# Altium schematic symbol library kmilo17pet-TI_RS232.SchLib: 1272 symbols (part 35 of 37)
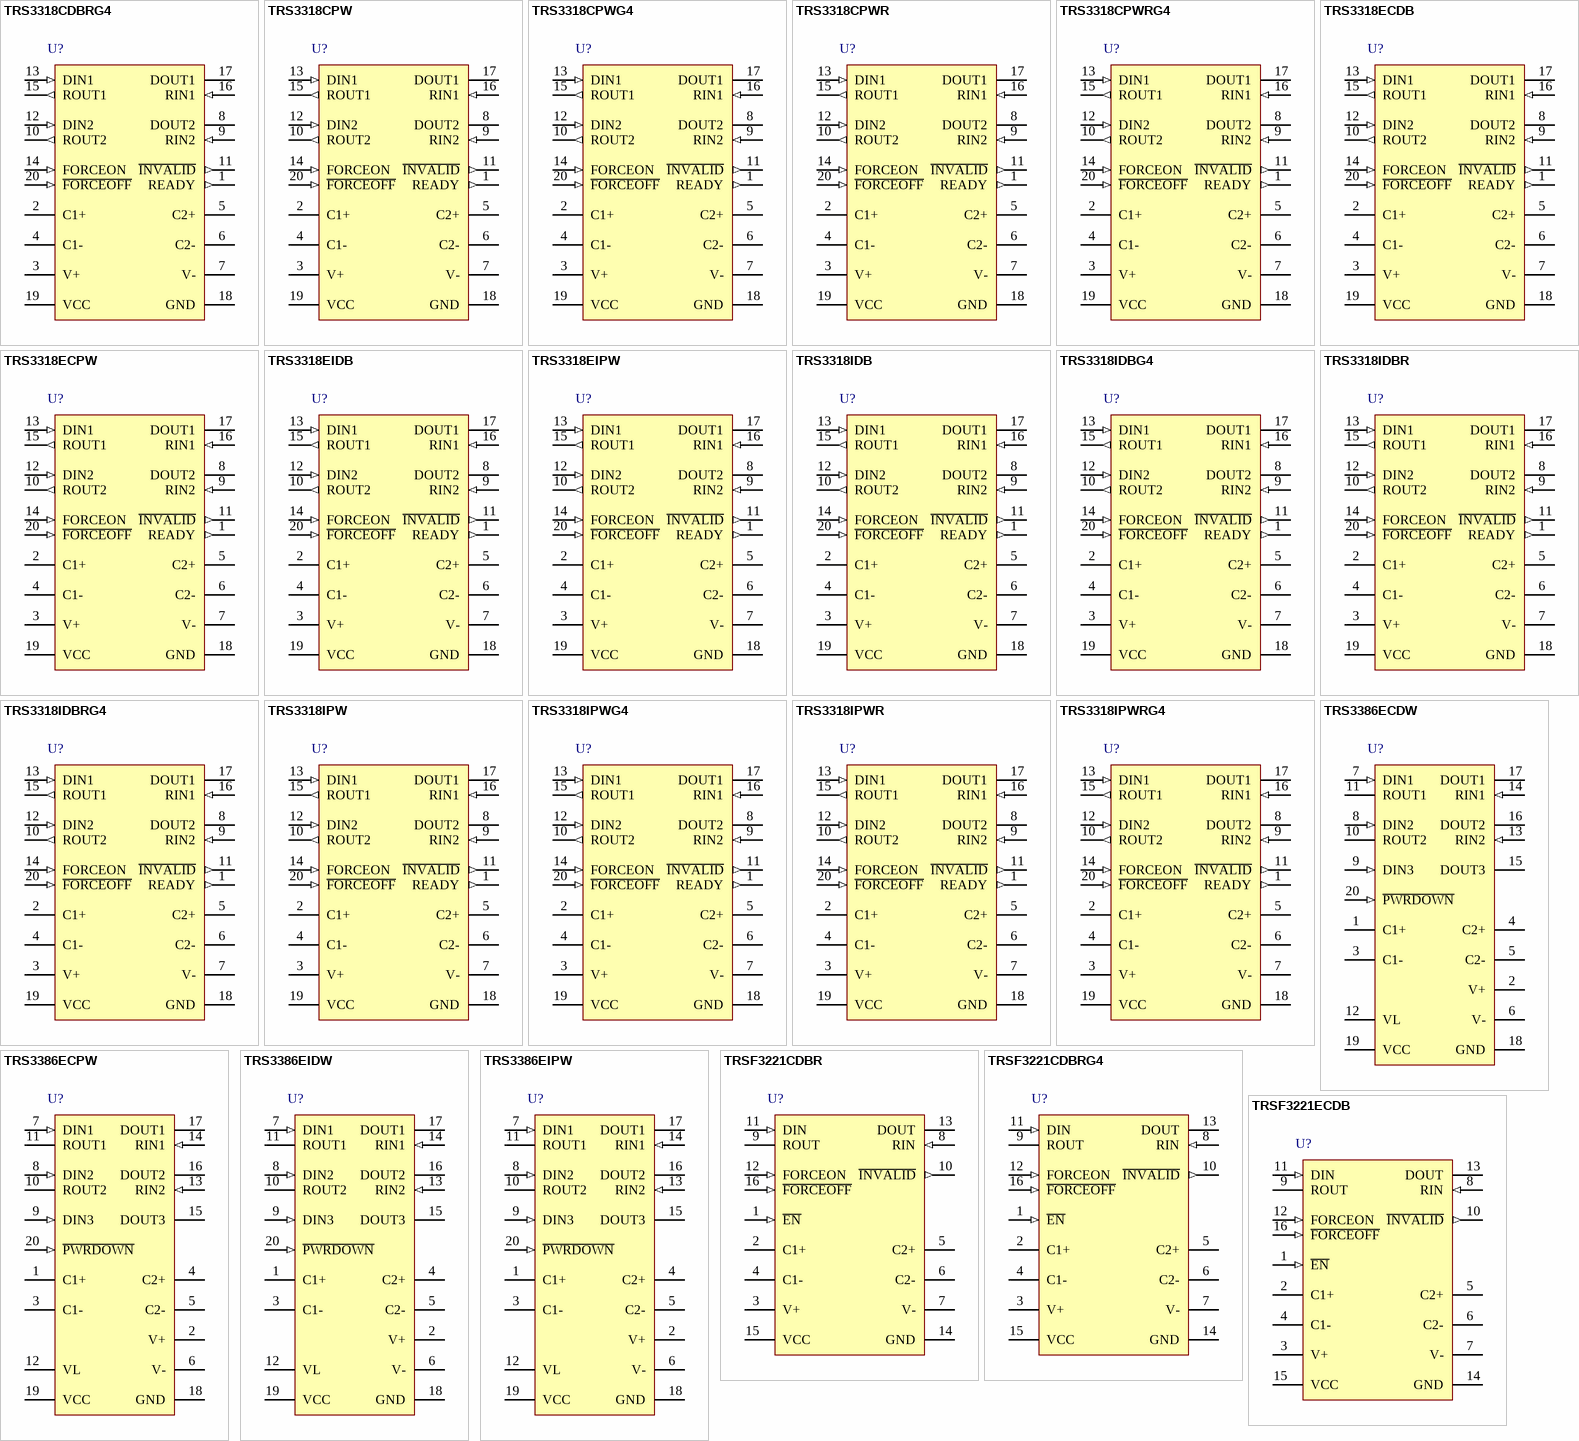
[diagram p88: symbols TRS3318CDBRG4 to TRSF3221ECDB]

## TRS3318CPW
designator U?
2.5-V 460-kbps RS-232 Transceiver with ±15-kV ESD Protection, 0 to 70 degC, 20-Pin TSSOP (PW), Green (RoHS & no Sb/Br); Drivers Per Package: 2; Supply Voltage(s)(V): 2.25 to 3.0; ESD HBM(kV): +/-15; Single Supply: TRUE; DatasheetVersion: SLLS820; PackageVersion: revG, Feb-2011; PackageReference: PW20; PackageDescription: 20-Pin Plastic Thin Small Outline Package 6.5 x 4.4 mm Body ,0.65 mm Pitch; SubFamily: RS-232; Receivers Per Package: 2; ICC(Max)(mA): 2; RS-232: TRUE; ComponentLink1Description: Manufacturer URL; ComponentLink1URL: www.ti.com; ComponentLink2Description: Datasheet; ComponentLink2URL: http://www.ti.com/general/docs/lit/getliterature.tsp?genericPartNumber=TRS3318&fileType=pdf; ComponentLink3Description: Package Specification; ComponentLink3URL: http://www.ti.com/litv/pdf/mpds362
footprint TI-PW20_N (TSOP, 20-Leads, Body 6.5x4.4mm, Pitch 0.65mm, IPC Medium Density)
footprint TI-PW20_L (TSOP, 20-Leads, Body 6.5x4.4mm, Pitch 0.65mm, IPC High Density)
footprint TI-PW20_M (TSOP, 20-Leads, Body 6.5x4.4mm, Pitch 0.65mm, IPC Low Density)
pins: 1 READY (out) "Ready to transmit output, active high. READY is enabled high when V- goes below -3.5 V and the device is ready to transmit.", 2 C1+ "Positive voltage-doubler charge-pump capacitor", 3 V+ (power) "2 x VCC generated by the charge pump", 4 C1- "Negative voltage-doubler charge-pump capacitor", 5 C2+ "Positive inverting charge-pump capacitor", 6 C2- "Negative inverting charge-pump capacitor", 7 V- (power) "-2 x VCC generated by the charge pump", 8 DOUT2 (hiz) "RS-232 driver outputs", 9 RIN2 (in) "RS-232 receiver inputs", 10 ROUT2 (out) "CMOS receiver outputs", 11 ~{INVALID} (out) "Valid signal detector output, active low. A logic high indicates that a valid RS-232 level is present on a receiver input.", 12 DIN2 (in) "CMOS driver inputs", 13 DIN1 (in) "CMOS driver inputs", 14 FORCEON (in) "Force-on input, active high. Drive high to override auto-powerdown, keeping transmitters and receivers on (F\O\R\C\E\O\F\F must be high) (see Function Table)", 15 ROUT1 (out) "CMOS receiver outputs", 16 RIN1 (in) "RS-232 receiver inputs", 17 DOUT1 (hiz) "RS-232 driver outputs", 18 GND (power) "Ground", 19 VCC (power) "2.25-V to 3-V single-supply voltage", 20 ~{FORCEOFF} (in) "Force-off input,active low.Drive low to power down transmitters, receivers, and charge pump. This overrides auto-powerdown and FORCEON (see Function Table)"

## TRS3318CPWG4
designator U?
2.5-V 460-kbps RS-232 Transceiver with ±15-kV ESD Protection, 0 to 70 degC, 20-Pin TSSOP (PW), Green (RoHS & no Sb/Br); Drivers Per Package: 2; Supply Voltage(s)(V): 2.25 to 3.0; ESD HBM(kV): +/-15; Single Supply: TRUE; DatasheetVersion: SLLS820; PackageVersion: revG, Feb-2011; PackageReference: PW20; PackageDescription: 20-Pin Plastic Thin Small Outline Package 6.5 x 4.4 mm Body ,0.65 mm Pitch; SubFamily: RS-232; Receivers Per Package: 2; ICC(Max)(mA): 2; RS-232: TRUE; ComponentLink1Description: Manufacturer URL; ComponentLink1URL: www.ti.com; ComponentLink2Description: Datasheet; ComponentLink2URL: http://www.ti.com/general/docs/lit/getliterature.tsp?genericPartNumber=TRS3318&fileType=pdf; ComponentLink3Description: Package Specification; ComponentLink3URL: http://www.ti.com/litv/pdf/mpds362
footprint TI-PW20_N (TSOP, 20-Leads, Body 6.5x4.4mm, Pitch 0.65mm, IPC Medium Density)
footprint TI-PW20_L (TSOP, 20-Leads, Body 6.5x4.4mm, Pitch 0.65mm, IPC High Density)
footprint TI-PW20_M (TSOP, 20-Leads, Body 6.5x4.4mm, Pitch 0.65mm, IPC Low Density)
pins: 1 READY (out) "Ready to transmit output, active high. READY is enabled high when V- goes below -3.5 V and the device is ready to transmit.", 2 C1+ "Positive voltage-doubler charge-pump capacitor", 3 V+ (power) "2 x VCC generated by the charge pump", 4 C1- "Negative voltage-doubler charge-pump capacitor", 5 C2+ "Positive inverting charge-pump capacitor", 6 C2- "Negative inverting charge-pump capacitor", 7 V- (power) "-2 x VCC generated by the charge pump", 8 DOUT2 (hiz) "RS-232 driver outputs", 9 RIN2 (in) "RS-232 receiver inputs", 10 ROUT2 (out) "CMOS receiver outputs", 11 ~{INVALID} (out) "Valid signal detector output, active low. A logic high indicates that a valid RS-232 level is present on a receiver input.", 12 DIN2 (in) "CMOS driver inputs", 13 DIN1 (in) "CMOS driver inputs", 14 FORCEON (in) "Force-on input, active high. Drive high to override auto-powerdown, keeping transmitters and receivers on (F\O\R\C\E\O\F\F must be high) (see Function Table)", 15 ROUT1 (out) "CMOS receiver outputs", 16 RIN1 (in) "RS-232 receiver inputs", 17 DOUT1 (hiz) "RS-232 driver outputs", 18 GND (power) "Ground", 19 VCC (power) "2.25-V to 3-V single-supply voltage", 20 ~{FORCEOFF} (in) "Force-off input,active low.Drive low to power down transmitters, receivers, and charge pump. This overrides auto-powerdown and FORCEON (see Function Table)"

## TRS3318CPWR
designator U?
2.5-V 460-kbps RS-232 Transceiver with ±15-kV ESD Protection, 0 to 70 degC, 20-Pin TSSOP (PW), Green (RoHS & no Sb/Br); Drivers Per Package: 2; Supply Voltage(s)(V): 2.25 to 3.0; ESD HBM(kV): +/-15; Single Supply: TRUE; DatasheetVersion: SLLS820; PackageVersion: revG, Feb-2011; PackageReference: PW20; PackageDescription: 20-Pin Plastic Thin Small Outline Package 6.5 x 4.4 mm Body ,0.65 mm Pitch; SubFamily: RS-232; Receivers Per Package: 2; ICC(Max)(mA): 2; RS-232: TRUE; ComponentLink1Description: Manufacturer URL; ComponentLink1URL: www.ti.com; ComponentLink2Description: Datasheet; ComponentLink2URL: http://www.ti.com/general/docs/lit/getliterature.tsp?genericPartNumber=TRS3318&fileType=pdf; ComponentLink3Description: Package Specification; ComponentLink3URL: http://www.ti.com/litv/pdf/mpds362
footprint TI-PW20_N (TSOP, 20-Leads, Body 6.5x4.4mm, Pitch 0.65mm, IPC Medium Density)
footprint TI-PW20_L (TSOP, 20-Leads, Body 6.5x4.4mm, Pitch 0.65mm, IPC High Density)
footprint TI-PW20_M (TSOP, 20-Leads, Body 6.5x4.4mm, Pitch 0.65mm, IPC Low Density)
pins: 1 READY (out) "Ready to transmit output, active high. READY is enabled high when V- goes below -3.5 V and the device is ready to transmit.", 2 C1+ "Positive voltage-doubler charge-pump capacitor", 3 V+ (power) "2 x VCC generated by the charge pump", 4 C1- "Negative voltage-doubler charge-pump capacitor", 5 C2+ "Positive inverting charge-pump capacitor", 6 C2- "Negative inverting charge-pump capacitor", 7 V- (power) "-2 x VCC generated by the charge pump", 8 DOUT2 (hiz) "RS-232 driver outputs", 9 RIN2 (in) "RS-232 receiver inputs", 10 ROUT2 (out) "CMOS receiver outputs", 11 ~{INVALID} (out) "Valid signal detector output, active low. A logic high indicates that a valid RS-232 level is present on a receiver input.", 12 DIN2 (in) "CMOS driver inputs", 13 DIN1 (in) "CMOS driver inputs", 14 FORCEON (in) "Force-on input, active high. Drive high to override auto-powerdown, keeping transmitters and receivers on (F\O\R\C\E\O\F\F must be high) (see Function Table)", 15 ROUT1 (out) "CMOS receiver outputs", 16 RIN1 (in) "RS-232 receiver inputs", 17 DOUT1 (hiz) "RS-232 driver outputs", 18 GND (power) "Ground", 19 VCC (power) "2.25-V to 3-V single-supply voltage", 20 ~{FORCEOFF} (in) "Force-off input,active low.Drive low to power down transmitters, receivers, and charge pump. This overrides auto-powerdown and FORCEON (see Function Table)"

## TRS3318CPWRG4
designator U?
2.5-V 460-kbps RS-232 Transceiver with ±15-kV ESD Protection, 0 to 70 degC, 20-Pin TSSOP (PW), Green (RoHS & no Sb/Br); Drivers Per Package: 2; Supply Voltage(s)(V): 2.25 to 3.0; ESD HBM(kV): +/-15; Single Supply: TRUE; DatasheetVersion: SLLS820; PackageVersion: revG, Feb-2011; PackageReference: PW20; PackageDescription: 20-Pin Plastic Thin Small Outline Package 6.5 x 4.4 mm Body ,0.65 mm Pitch; SubFamily: RS-232; Receivers Per Package: 2; ICC(Max)(mA): 2; RS-232: TRUE; ComponentLink1Description: Manufacturer URL; ComponentLink1URL: www.ti.com; ComponentLink2Description: Datasheet; ComponentLink2URL: http://www.ti.com/general/docs/lit/getliterature.tsp?genericPartNumber=TRS3318&fileType=pdf; ComponentLink3Description: Package Specification; ComponentLink3URL: http://www.ti.com/litv/pdf/mpds362
footprint TI-PW20_N (TSOP, 20-Leads, Body 6.5x4.4mm, Pitch 0.65mm, IPC Medium Density)
footprint TI-PW20_L (TSOP, 20-Leads, Body 6.5x4.4mm, Pitch 0.65mm, IPC High Density)
footprint TI-PW20_M (TSOP, 20-Leads, Body 6.5x4.4mm, Pitch 0.65mm, IPC Low Density)
pins: 1 READY (out) "Ready to transmit output, active high. READY is enabled high when V- goes below -3.5 V and the device is ready to transmit.", 2 C1+ "Positive voltage-doubler charge-pump capacitor", 3 V+ (power) "2 x VCC generated by the charge pump", 4 C1- "Negative voltage-doubler charge-pump capacitor", 5 C2+ "Positive inverting charge-pump capacitor", 6 C2- "Negative inverting charge-pump capacitor", 7 V- (power) "-2 x VCC generated by the charge pump", 8 DOUT2 (hiz) "RS-232 driver outputs", 9 RIN2 (in) "RS-232 receiver inputs", 10 ROUT2 (out) "CMOS receiver outputs", 11 ~{INVALID} (out) "Valid signal detector output, active low. A logic high indicates that a valid RS-232 level is present on a receiver input.", 12 DIN2 (in) "CMOS driver inputs", 13 DIN1 (in) "CMOS driver inputs", 14 FORCEON (in) "Force-on input, active high. Drive high to override auto-powerdown, keeping transmitters and receivers on (F\O\R\C\E\O\F\F must be high) (see Function Table)", 15 ROUT1 (out) "CMOS receiver outputs", 16 RIN1 (in) "RS-232 receiver inputs", 17 DOUT1 (hiz) "RS-232 driver outputs", 18 GND (power) "Ground", 19 VCC (power) "2.25-V to 3-V single-supply voltage", 20 ~{FORCEOFF} (in) "Force-off input,active low.Drive low to power down transmitters, receivers, and charge pump. This overrides auto-powerdown and FORCEON (see Function Table)"

## TRS3318ECDB
designator U?
2.5-V 460-kbps RS-232 Transceiver with ±15-kV ESD Protection, 0 to 70 degC, 20-Pin SSOP (DB), Green (RoHS & no Sb/Br); Drivers Per Package: 2; Supply Voltage(s)(V): 2.25 to 3.0; ESD HBM(kV): +/-15; Single Supply: TRUE; DatasheetVersion: SLLS805A; PackageVersion: revE, Dec-2001; PackageReference: DB20; PackageDescription: 20-Pin Plastic Small Outline Package, 7.2 x 5.3 mm Body, 0.65 mm Pitch; SubFamily: RS-232; Receivers Per Package: 2; ICC(Max)(mA): 2; RS-232: TRUE; IEC-61000-4-2 SUPPORT: TRUE; ComponentLink1Description: Manufacturer URL; ComponentLink1URL: www.ti.com; ComponentLink2Description: Datasheet; ComponentLink2URL: http://www.ti.com/general/docs/lit/getliterature.tsp?genericPartNumber=TRS3318E&fileType=pdf; ComponentLink3Description: Package Specification; ComponentLink3URL: http://www.ti.com/litv/pdf/msso002e
footprint TI-DB20_N (SOP, 20-Leads, Body 7.2x5.3mm, Pitch 0.65mm, IPC Medium Density)
footprint TI-DB20_L (SOP, 20-Leads, Body 7.2x5.3mm, Pitch 0.65mm, IPC High Density)
footprint TI-DB20_M (SOP, 20-Leads, Body 7.2x5.3mm, Pitch 0.65mm, IPC Low Density)
pins: 1 READY (out) "Ready to transmit output, active high. READY is enabled high when V- goes below -3.5 V and the device is ready to transmit.", 2 C1+ "Positive voltage-doubler charge-pump capacitor", 3 V+ (power) "2 x VCC generated by the charge pump", 4 C1- "Negative voltage-doubler charge-pump capacitor", 5 C2+ "Positive inverting charge-pump capacitor", 6 C2- "Negative inverting charge-pump capacitor", 7 V- (power) "-2 x VCC generated by the charge pump", 8 DOUT2 (hiz) "RS-232 driver outputs", 9 RIN2 (in) "RS-232 receiver inputs", 10 ROUT2 (out) "CMOS receiver outputs", 11 ~{INVALID} (out) "Valid signal detector output, active low. A logic high indicates that a valid RS-232 level is present on a receiver input.", 12 DIN2 (in) "CMOS driver inputs", 13 DIN1 (in) "CMOS driver inputs", 14 FORCEON (in) "Force-on input, active high. Drive high to override auto-powerdown, keeping transmitters and receivers on (F\O\R\C\E\O\F\F\ must be high) (see Function Table).", 15 ROUT1 (out) "CMOS receiver outputs", 16 RIN1 (in) "RS-232 receiver inputs", 17 DOUT1 (hiz) "RS-232 driver outputs", 18 GND (power) "Ground", 19 VCC (power) "2.25-V to 3-V single-supply voltage", 20 ~{FORCEOFF} (in) "Force-off input, active low. Drive low to power down transmitters, receivers, and charge pump. This overrides auto-powerdown and FORCEON (see Function Table)."

## TRS3318ECPW
designator U?
2.5-V 460-kbps RS-232 Transceiver with ±15-kV ESD Protection, 0 to 70 degC, 20-Pin TSSOP (PW), Green (RoHS & no Sb/Br); Drivers Per Package: 2; Supply Voltage(s)(V): 2.25 to 3.0; ESD HBM(kV): +/-15; Single Supply: TRUE; DatasheetVersion: SLLS805A; PackageVersion: revG, Feb-2011; PackageReference: PW20; PackageDescription: 20-Pin Plastic Thin Small Outline Package 6.5 x 4.4 mm Body ,0.65 mm Pitch; SubFamily: RS-232; Receivers Per Package: 2; ICC(Max)(mA): 2; RS-232: TRUE; IEC-61000-4-2 SUPPORT: TRUE; ComponentLink1Description: Manufacturer URL; ComponentLink1URL: www.ti.com; ComponentLink2Description: Datasheet; ComponentLink2URL: http://www.ti.com/general/docs/lit/getliterature.tsp?genericPartNumber=TRS3318E&fileType=pdf; ComponentLink3Description: Package Specification; ComponentLink3URL: http://www.ti.com/litv/pdf/mpds362
footprint TI-PW20_N (TSOP, 20-Leads, Body 6.5x4.4mm, Pitch 0.65mm, IPC Medium Density)
footprint TI-PW20_L (TSOP, 20-Leads, Body 6.5x4.4mm, Pitch 0.65mm, IPC High Density)
footprint TI-PW20_M (TSOP, 20-Leads, Body 6.5x4.4mm, Pitch 0.65mm, IPC Low Density)
pins: 1 READY (out) "Ready to transmit output, active high. READY is enabled high when V- goes below -3.5 V and the device is ready to transmit.", 2 C1+ "Positive voltage-doubler charge-pump capacitor", 3 V+ (power) "2 x VCC generated by the charge pump", 4 C1- "Negative voltage-doubler charge-pump capacitor", 5 C2+ "Positive inverting charge-pump capacitor", 6 C2- "Negative inverting charge-pump capacitor", 7 V- (power) "-2 x VCC generated by the charge pump", 8 DOUT2 (hiz) "RS-232 driver outputs", 9 RIN2 (in) "RS-232 receiver inputs", 10 ROUT2 (out) "CMOS receiver outputs", 11 ~{INVALID} (out) "Valid signal detector output, active low. A logic high indicates that a valid RS-232 level is present on a receiver input.", 12 DIN2 (in) "CMOS driver inputs", 13 DIN1 (in) "CMOS driver inputs", 14 FORCEON (in) "Force-on input, active high. Drive high to override auto-powerdown, keeping transmitters and receivers on (F\O\R\C\E\O\F\F\ must be high) (see Function Table).", 15 ROUT1 (out) "CMOS receiver outputs", 16 RIN1 (in) "RS-232 receiver inputs", 17 DOUT1 (hiz) "RS-232 driver outputs", 18 GND (power) "Ground", 19 VCC (power) "2.25-V to 3-V single-supply voltage", 20 ~{FORCEOFF} (in) "Force-off input, active low. Drive low to power down transmitters, receivers, and charge pump. This overrides auto-powerdown and FORCEON (see Function Table)."

## TRS3318EIDB
designator U?
2.5-V 460-kbps RS-232 Transceiver with ±15-kV ESD Protection, -40 to 85 degC, 20-Pin SSOP (DB), Green (RoHS & no Sb/Br); Drivers Per Package: 2; Supply Voltage(s)(V): 2.25 to 3.0; ESD HBM(kV): +/-15; Single Supply: TRUE; DatasheetVersion: SLLS805A; PackageVersion: revE, Dec-2001; PackageReference: DB20; PackageDescription: 20-Pin Plastic Small Outline Package, 7.2 x 5.3 mm Body, 0.65 mm Pitch; SubFamily: RS-232; Receivers Per Package: 2; ICC(Max)(mA): 2; RS-232: TRUE; IEC-61000-4-2 SUPPORT: TRUE; ComponentLink1Description: Manufacturer URL; ComponentLink1URL: www.ti.com; ComponentLink2Description: Datasheet; ComponentLink2URL: http://www.ti.com/general/docs/lit/getliterature.tsp?genericPartNumber=TRS3318E&fileType=pdf; ComponentLink3Description: Package Specification; ComponentLink3URL: http://www.ti.com/litv/pdf/msso002e
footprint TI-DB20_N (SOP, 20-Leads, Body 7.2x5.3mm, Pitch 0.65mm, IPC Medium Density)
footprint TI-DB20_L (SOP, 20-Leads, Body 7.2x5.3mm, Pitch 0.65mm, IPC High Density)
footprint TI-DB20_M (SOP, 20-Leads, Body 7.2x5.3mm, Pitch 0.65mm, IPC Low Density)
pins: 1 READY (out) "Ready to transmit output, active high. READY is enabled high when V- goes below -3.5 V and the device is ready to transmit.", 2 C1+ "Positive voltage-doubler charge-pump capacitor", 3 V+ (power) "2 x VCC generated by the charge pump", 4 C1- "Negative voltage-doubler charge-pump capacitor", 5 C2+ "Positive inverting charge-pump capacitor", 6 C2- "Negative inverting charge-pump capacitor", 7 V- (power) "-2 x VCC generated by the charge pump", 8 DOUT2 (hiz) "RS-232 driver outputs", 9 RIN2 (in) "RS-232 receiver inputs", 10 ROUT2 (out) "CMOS receiver outputs", 11 ~{INVALID} (out) "Valid signal detector output, active low. A logic high indicates that a valid RS-232 level is present on a receiver input.", 12 DIN2 (in) "CMOS driver inputs", 13 DIN1 (in) "CMOS driver inputs", 14 FORCEON (in) "Force-on input, active high. Drive high to override auto-powerdown, keeping transmitters and receivers on (F\O\R\C\E\O\F\F\ must be high) (see Function Table).", 15 ROUT1 (out) "CMOS receiver outputs", 16 RIN1 (in) "RS-232 receiver inputs", 17 DOUT1 (hiz) "RS-232 driver outputs", 18 GND (power) "Ground", 19 VCC (power) "2.25-V to 3-V single-supply voltage", 20 ~{FORCEOFF} (in) "Force-off input, active low. Drive low to power down transmitters, receivers, and charge pump. This overrides auto-powerdown and FORCEON (see Function Table)."

## TRS3318EIPW
designator U?
2.5-V 460-kbps RS-232 Transceiver with ±15-kV ESD Protection, -40 to 85 degC, 20-Pin TSSOP (PW), Green (RoHS & no Sb/Br); Drivers Per Package: 2; Supply Voltage(s)(V): 2.25 to 3.0; ESD HBM(kV): +/-15; Single Supply: TRUE; DatasheetVersion: SLLS805A; PackageVersion: revG, Feb-2011; PackageReference: PW20; PackageDescription: 20-Pin Plastic Thin Small Outline Package 6.5 x 4.4 mm Body ,0.65 mm Pitch; SubFamily: RS-232; Receivers Per Package: 2; ICC(Max)(mA): 2; RS-232: TRUE; IEC-61000-4-2 SUPPORT: TRUE; ComponentLink1Description: Manufacturer URL; ComponentLink1URL: www.ti.com; ComponentLink2Description: Datasheet; ComponentLink2URL: http://www.ti.com/general/docs/lit/getliterature.tsp?genericPartNumber=TRS3318E&fileType=pdf; ComponentLink3Description: Package Specification; ComponentLink3URL: http://www.ti.com/litv/pdf/mpds362
footprint TI-PW20_N (TSOP, 20-Leads, Body 6.5x4.4mm, Pitch 0.65mm, IPC Medium Density)
footprint TI-PW20_L (TSOP, 20-Leads, Body 6.5x4.4mm, Pitch 0.65mm, IPC High Density)
footprint TI-PW20_M (TSOP, 20-Leads, Body 6.5x4.4mm, Pitch 0.65mm, IPC Low Density)
pins: 1 READY (out) "Ready to transmit output, active high. READY is enabled high when V- goes below -3.5 V and the device is ready to transmit.", 2 C1+ "Positive voltage-doubler charge-pump capacitor", 3 V+ (power) "2 x VCC generated by the charge pump", 4 C1- "Negative voltage-doubler charge-pump capacitor", 5 C2+ "Positive inverting charge-pump capacitor", 6 C2- "Negative inverting charge-pump capacitor", 7 V- (power) "-2 x VCC generated by the charge pump", 8 DOUT2 (hiz) "RS-232 driver outputs", 9 RIN2 (in) "RS-232 receiver inputs", 10 ROUT2 (out) "CMOS receiver outputs", 11 ~{INVALID} (out) "Valid signal detector output, active low. A logic high indicates that a valid RS-232 level is present on a receiver input.", 12 DIN2 (in) "CMOS driver inputs", 13 DIN1 (in) "CMOS driver inputs", 14 FORCEON (in) "Force-on input, active high. Drive high to override auto-powerdown, keeping transmitters and receivers on (F\O\R\C\E\O\F\F\ must be high) (see Function Table).", 15 ROUT1 (out) "CMOS receiver outputs", 16 RIN1 (in) "RS-232 receiver inputs", 17 DOUT1 (hiz) "RS-232 driver outputs", 18 GND (power) "Ground", 19 VCC (power) "2.25-V to 3-V single-supply voltage", 20 ~{FORCEOFF} (in) "Force-off input, active low. Drive low to power down transmitters, receivers, and charge pump. This overrides auto-powerdown and FORCEON (see Function Table)."

## TRS3318IDB
designator U?
2.5-V 460-kbps RS-232 Transceiver with ±15-kV ESD Protection, -40 to 85 degC, 20-Pin SSOP (DB), Green (RoHS & no Sb/Br); Drivers Per Package: 2; Supply Voltage(s)(V): 2.25 to 3.0; ESD HBM(kV): +/-15; Single Supply: TRUE; DatasheetVersion: SLLS820; PackageVersion: revE, Dec-2001; PackageReference: DB20; PackageDescription: 20-Pin Plastic Small Outline Package, 7.2 x 5.3 mm Body, 0.65 mm Pitch; SubFamily: RS-232; Receivers Per Package: 2; ICC(Max)(mA): 2; RS-232: TRUE; ComponentLink1Description: Manufacturer URL; ComponentLink1URL: www.ti.com; ComponentLink2Description: Datasheet; ComponentLink2URL: http://www.ti.com/general/docs/lit/getliterature.tsp?genericPartNumber=TRS3318&fileType=pdf; ComponentLink3Description: Package Specification; ComponentLink3URL: http://www.ti.com/litv/pdf/msso002e
footprint TI-DB20_N (SOP, 20-Leads, Body 7.2x5.3mm, Pitch 0.65mm, IPC Medium Density)
footprint TI-DB20_L (SOP, 20-Leads, Body 7.2x5.3mm, Pitch 0.65mm, IPC High Density)
footprint TI-DB20_M (SOP, 20-Leads, Body 7.2x5.3mm, Pitch 0.65mm, IPC Low Density)
pins: 1 READY (out) "Ready to transmit output, active high. READY is enabled high when V- goes below -3.5 V and the device is ready to transmit.", 2 C1+ "Positive voltage-doubler charge-pump capacitor", 3 V+ (power) "2 x VCC generated by the charge pump", 4 C1- "Negative voltage-doubler charge-pump capacitor", 5 C2+ "Positive inverting charge-pump capacitor", 6 C2- "Negative inverting charge-pump capacitor", 7 V- (power) "-2 x VCC generated by the charge pump", 8 DOUT2 (hiz) "RS-232 driver outputs", 9 RIN2 (in) "RS-232 receiver inputs", 10 ROUT2 (out) "CMOS receiver outputs", 11 ~{INVALID} (out) "Valid signal detector output, active low. A logic high indicates that a valid RS-232 level is present on a receiver input.", 12 DIN2 (in) "CMOS driver inputs", 13 DIN1 (in) "CMOS driver inputs", 14 FORCEON (in) "Force-on input, active high. Drive high to override auto-powerdown, keeping transmitters and receivers on (F\O\R\C\E\O\F\F must be high) (see Function Table)", 15 ROUT1 (out) "CMOS receiver outputs", 16 RIN1 (in) "RS-232 receiver inputs", 17 DOUT1 (hiz) "RS-232 driver outputs", 18 GND (power) "Ground", 19 VCC (power) "2.25-V to 3-V single-supply voltage", 20 ~{FORCEOFF} (in) "Force-off input,active low.Drive low to power down transmitters, receivers, and charge pump. This overrides auto-powerdown and FORCEON (see Function Table)"

## TRS3318IDBG4
designator U?
2.5-V 460-kbps RS-232 Transceiver with ±15-kV ESD Protection, -40 to 85 degC, 20-Pin SSOP (DB), Green (RoHS & no Sb/Br); Drivers Per Package: 2; Supply Voltage(s)(V): 2.25 to 3.0; ESD HBM(kV): +/-15; Single Supply: TRUE; DatasheetVersion: SLLS820; PackageVersion: revE, Dec-2001; PackageReference: DB20; PackageDescription: 20-Pin Plastic Small Outline Package, 7.2 x 5.3 mm Body, 0.65 mm Pitch; SubFamily: RS-232; Receivers Per Package: 2; ICC(Max)(mA): 2; RS-232: TRUE; ComponentLink1Description: Manufacturer URL; ComponentLink1URL: www.ti.com; ComponentLink2Description: Datasheet; ComponentLink2URL: http://www.ti.com/general/docs/lit/getliterature.tsp?genericPartNumber=TRS3318&fileType=pdf; ComponentLink3Description: Package Specification; ComponentLink3URL: http://www.ti.com/litv/pdf/msso002e
footprint TI-DB20_N (SOP, 20-Leads, Body 7.2x5.3mm, Pitch 0.65mm, IPC Medium Density)
footprint TI-DB20_L (SOP, 20-Leads, Body 7.2x5.3mm, Pitch 0.65mm, IPC High Density)
footprint TI-DB20_M (SOP, 20-Leads, Body 7.2x5.3mm, Pitch 0.65mm, IPC Low Density)
pins: 1 READY (out) "Ready to transmit output, active high. READY is enabled high when V- goes below -3.5 V and the device is ready to transmit.", 2 C1+ "Positive voltage-doubler charge-pump capacitor", 3 V+ (power) "2 x VCC generated by the charge pump", 4 C1- "Negative voltage-doubler charge-pump capacitor", 5 C2+ "Positive inverting charge-pump capacitor", 6 C2- "Negative inverting charge-pump capacitor", 7 V- (power) "-2 x VCC generated by the charge pump", 8 DOUT2 (hiz) "RS-232 driver outputs", 9 RIN2 (in) "RS-232 receiver inputs", 10 ROUT2 (out) "CMOS receiver outputs", 11 ~{INVALID} (out) "Valid signal detector output, active low. A logic high indicates that a valid RS-232 level is present on a receiver input.", 12 DIN2 (in) "CMOS driver inputs", 13 DIN1 (in) "CMOS driver inputs", 14 FORCEON (in) "Force-on input, active high. Drive high to override auto-powerdown, keeping transmitters and receivers on (F\O\R\C\E\O\F\F must be high) (see Function Table)", 15 ROUT1 (out) "CMOS receiver outputs", 16 RIN1 (in) "RS-232 receiver inputs", 17 DOUT1 (hiz) "RS-232 driver outputs", 18 GND (power) "Ground", 19 VCC (power) "2.25-V to 3-V single-supply voltage", 20 ~{FORCEOFF} (in) "Force-off input,active low.Drive low to power down transmitters, receivers, and charge pump. This overrides auto-powerdown and FORCEON (see Function Table)"

## TRS3318IDBR
designator U?
2.5-V 460-kbps RS-232 Transceiver with ±15-kV ESD Protection, -40 to 85 degC, 20-Pin SSOP (DB), Green (RoHS & no Sb/Br); Drivers Per Package: 2; Supply Voltage(s)(V): 2.25 to 3.0; ESD HBM(kV): +/-15; Single Supply: TRUE; DatasheetVersion: SLLS820; PackageVersion: revE, Dec-2001; PackageReference: DB20; PackageDescription: 20-Pin Plastic Small Outline Package, 7.2 x 5.3 mm Body, 0.65 mm Pitch; SubFamily: RS-232; Receivers Per Package: 2; ICC(Max)(mA): 2; RS-232: TRUE; ComponentLink1Description: Manufacturer URL; ComponentLink1URL: www.ti.com; ComponentLink2Description: Datasheet; ComponentLink2URL: http://www.ti.com/general/docs/lit/getliterature.tsp?genericPartNumber=TRS3318&fileType=pdf; ComponentLink3Description: Package Specification; ComponentLink3URL: http://www.ti.com/litv/pdf/msso002e
footprint TI-DB20_N (SOP, 20-Leads, Body 7.2x5.3mm, Pitch 0.65mm, IPC Medium Density)
footprint TI-DB20_L (SOP, 20-Leads, Body 7.2x5.3mm, Pitch 0.65mm, IPC High Density)
footprint TI-DB20_M (SOP, 20-Leads, Body 7.2x5.3mm, Pitch 0.65mm, IPC Low Density)
pins: 1 READY (out) "Ready to transmit output, active high. READY is enabled high when V- goes below -3.5 V and the device is ready to transmit.", 2 C1+ "Positive voltage-doubler charge-pump capacitor", 3 V+ (power) "2 x VCC generated by the charge pump", 4 C1- "Negative voltage-doubler charge-pump capacitor", 5 C2+ "Positive inverting charge-pump capacitor", 6 C2- "Negative inverting charge-pump capacitor", 7 V- (power) "-2 x VCC generated by the charge pump", 8 DOUT2 (hiz) "RS-232 driver outputs", 9 RIN2 (in) "RS-232 receiver inputs", 10 ROUT2 (out) "CMOS receiver outputs", 11 ~{INVALID} (out) "Valid signal detector output, active low. A logic high indicates that a valid RS-232 level is present on a receiver input.", 12 DIN2 (in) "CMOS driver inputs", 13 DIN1 (in) "CMOS driver inputs", 14 FORCEON (in) "Force-on input, active high. Drive high to override auto-powerdown, keeping transmitters and receivers on (F\O\R\C\E\O\F\F must be high) (see Function Table)", 15 ROUT1 (out) "CMOS receiver outputs", 16 RIN1 (in) "RS-232 receiver inputs", 17 DOUT1 (hiz) "RS-232 driver outputs", 18 GND (power) "Ground", 19 VCC (power) "2.25-V to 3-V single-supply voltage", 20 ~{FORCEOFF} (in) "Force-off input,active low.Drive low to power down transmitters, receivers, and charge pump. This overrides auto-powerdown and FORCEON (see Function Table)"

## TRS3318IDBRG4
designator U?
2.5-V 460-kbps RS-232 Transceiver with ±15-kV ESD Protection, -40 to 85 degC, 20-Pin SSOP (DB), Green (RoHS & no Sb/Br); Drivers Per Package: 2; Supply Voltage(s)(V): 2.25 to 3.0; ESD HBM(kV): +/-15; Single Supply: TRUE; DatasheetVersion: SLLS820; PackageVersion: revE, Dec-2001; PackageReference: DB20; PackageDescription: 20-Pin Plastic Small Outline Package, 7.2 x 5.3 mm Body, 0.65 mm Pitch; SubFamily: RS-232; Receivers Per Package: 2; ICC(Max)(mA): 2; RS-232: TRUE; ComponentLink1Description: Manufacturer URL; ComponentLink1URL: www.ti.com; ComponentLink2Description: Datasheet; ComponentLink2URL: http://www.ti.com/general/docs/lit/getliterature.tsp?genericPartNumber=TRS3318&fileType=pdf; ComponentLink3Description: Package Specification; ComponentLink3URL: http://www.ti.com/litv/pdf/msso002e
footprint TI-DB20_N (SOP, 20-Leads, Body 7.2x5.3mm, Pitch 0.65mm, IPC Medium Density)
footprint TI-DB20_L (SOP, 20-Leads, Body 7.2x5.3mm, Pitch 0.65mm, IPC High Density)
footprint TI-DB20_M (SOP, 20-Leads, Body 7.2x5.3mm, Pitch 0.65mm, IPC Low Density)
pins: 1 READY (out) "Ready to transmit output, active high. READY is enabled high when V- goes below -3.5 V and the device is ready to transmit.", 2 C1+ "Positive voltage-doubler charge-pump capacitor", 3 V+ (power) "2 x VCC generated by the charge pump", 4 C1- "Negative voltage-doubler charge-pump capacitor", 5 C2+ "Positive inverting charge-pump capacitor", 6 C2- "Negative inverting charge-pump capacitor", 7 V- (power) "-2 x VCC generated by the charge pump", 8 DOUT2 (hiz) "RS-232 driver outputs", 9 RIN2 (in) "RS-232 receiver inputs", 10 ROUT2 (out) "CMOS receiver outputs", 11 ~{INVALID} (out) "Valid signal detector output, active low. A logic high indicates that a valid RS-232 level is present on a receiver input.", 12 DIN2 (in) "CMOS driver inputs", 13 DIN1 (in) "CMOS driver inputs", 14 FORCEON (in) "Force-on input, active high. Drive high to override auto-powerdown, keeping transmitters and receivers on (F\O\R\C\E\O\F\F must be high) (see Function Table)", 15 ROUT1 (out) "CMOS receiver outputs", 16 RIN1 (in) "RS-232 receiver inputs", 17 DOUT1 (hiz) "RS-232 driver outputs", 18 GND (power) "Ground", 19 VCC (power) "2.25-V to 3-V single-supply voltage", 20 ~{FORCEOFF} (in) "Force-off input,active low.Drive low to power down transmitters, receivers, and charge pump. This overrides auto-powerdown and FORCEON (see Function Table)"

## TRS3318IPW
designator U?
2.5-V 460-kbps RS-232 Transceiver with ±15-kV ESD Protection, -40 to 85 degC, 20-Pin TSSOP (PW), Green (RoHS & no Sb/Br); Drivers Per Package: 2; Supply Voltage(s)(V): 2.25 to 3.0; ESD HBM(kV): +/-15; Single Supply: TRUE; DatasheetVersion: SLLS820; PackageVersion: revG, Feb-2011; PackageReference: PW20; PackageDescription: 20-Pin Plastic Thin Small Outline Package 6.5 x 4.4 mm Body ,0.65 mm Pitch; SubFamily: RS-232; Receivers Per Package: 2; ICC(Max)(mA): 2; RS-232: TRUE; ComponentLink1Description: Manufacturer URL; ComponentLink1URL: www.ti.com; ComponentLink2Description: Datasheet; ComponentLink2URL: http://www.ti.com/general/docs/lit/getliterature.tsp?genericPartNumber=TRS3318&fileType=pdf; ComponentLink3Description: Package Specification; ComponentLink3URL: http://www.ti.com/litv/pdf/mpds362
footprint TI-PW20_N (TSOP, 20-Leads, Body 6.5x4.4mm, Pitch 0.65mm, IPC Medium Density)
footprint TI-PW20_L (TSOP, 20-Leads, Body 6.5x4.4mm, Pitch 0.65mm, IPC High Density)
footprint TI-PW20_M (TSOP, 20-Leads, Body 6.5x4.4mm, Pitch 0.65mm, IPC Low Density)
pins: 1 READY (out) "Ready to transmit output, active high. READY is enabled high when V- goes below -3.5 V and the device is ready to transmit.", 2 C1+ "Positive voltage-doubler charge-pump capacitor", 3 V+ (power) "2 x VCC generated by the charge pump", 4 C1- "Negative voltage-doubler charge-pump capacitor", 5 C2+ "Positive inverting charge-pump capacitor", 6 C2- "Negative inverting charge-pump capacitor", 7 V- (power) "-2 x VCC generated by the charge pump", 8 DOUT2 (hiz) "RS-232 driver outputs", 9 RIN2 (in) "RS-232 receiver inputs", 10 ROUT2 (out) "CMOS receiver outputs", 11 ~{INVALID} (out) "Valid signal detector output, active low. A logic high indicates that a valid RS-232 level is present on a receiver input.", 12 DIN2 (in) "CMOS driver inputs", 13 DIN1 (in) "CMOS driver inputs", 14 FORCEON (in) "Force-on input, active high. Drive high to override auto-powerdown, keeping transmitters and receivers on (F\O\R\C\E\O\F\F must be high) (see Function Table)", 15 ROUT1 (out) "CMOS receiver outputs", 16 RIN1 (in) "RS-232 receiver inputs", 17 DOUT1 (hiz) "RS-232 driver outputs", 18 GND (power) "Ground", 19 VCC (power) "2.25-V to 3-V single-supply voltage", 20 ~{FORCEOFF} (in) "Force-off input,active low.Drive low to power down transmitters, receivers, and charge pump. This overrides auto-powerdown and FORCEON (see Function Table)"

## TRS3318IPWG4
designator U?
2.5-V 460-kbps RS-232 Transceiver with ±15-kV ESD Protection, -40 to 85 degC, 20-Pin TSSOP (PW), Green (RoHS & no Sb/Br); Drivers Per Package: 2; Supply Voltage(s)(V): 2.25 to 3.0; ESD HBM(kV): +/-15; Single Supply: TRUE; DatasheetVersion: SLLS820; PackageVersion: revG, Feb-2011; PackageReference: PW20; PackageDescription: 20-Pin Plastic Thin Small Outline Package 6.5 x 4.4 mm Body ,0.65 mm Pitch; SubFamily: RS-232; Receivers Per Package: 2; ICC(Max)(mA): 2; RS-232: TRUE; ComponentLink1Description: Manufacturer URL; ComponentLink1URL: www.ti.com; ComponentLink2Description: Datasheet; ComponentLink2URL: http://www.ti.com/general/docs/lit/getliterature.tsp?genericPartNumber=TRS3318&fileType=pdf; ComponentLink3Description: Package Specification; ComponentLink3URL: http://www.ti.com/litv/pdf/mpds362
footprint TI-PW20_N (TSOP, 20-Leads, Body 6.5x4.4mm, Pitch 0.65mm, IPC Medium Density)
footprint TI-PW20_L (TSOP, 20-Leads, Body 6.5x4.4mm, Pitch 0.65mm, IPC High Density)
footprint TI-PW20_M (TSOP, 20-Leads, Body 6.5x4.4mm, Pitch 0.65mm, IPC Low Density)
pins: 1 READY (out) "Ready to transmit output, active high. READY is enabled high when V- goes below -3.5 V and the device is ready to transmit.", 2 C1+ "Positive voltage-doubler charge-pump capacitor", 3 V+ (power) "2 x VCC generated by the charge pump", 4 C1- "Negative voltage-doubler charge-pump capacitor", 5 C2+ "Positive inverting charge-pump capacitor", 6 C2- "Negative inverting charge-pump capacitor", 7 V- (power) "-2 x VCC generated by the charge pump", 8 DOUT2 (hiz) "RS-232 driver outputs", 9 RIN2 (in) "RS-232 receiver inputs", 10 ROUT2 (out) "CMOS receiver outputs", 11 ~{INVALID} (out) "Valid signal detector output, active low. A logic high indicates that a valid RS-232 level is present on a receiver input.", 12 DIN2 (in) "CMOS driver inputs", 13 DIN1 (in) "CMOS driver inputs", 14 FORCEON (in) "Force-on input, active high. Drive high to override auto-powerdown, keeping transmitters and receivers on (F\O\R\C\E\O\F\F must be high) (see Function Table)", 15 ROUT1 (out) "CMOS receiver outputs", 16 RIN1 (in) "RS-232 receiver inputs", 17 DOUT1 (hiz) "RS-232 driver outputs", 18 GND (power) "Ground", 19 VCC (power) "2.25-V to 3-V single-supply voltage", 20 ~{FORCEOFF} (in) "Force-off input,active low.Drive low to power down transmitters, receivers, and charge pump. This overrides auto-powerdown and FORCEON (see Function Table)"

## TRS3318IPWR
designator U?
2.5-V 460-kbps RS-232 Transceiver with ±15-kV ESD Protection, -40 to 85 degC, 20-Pin TSSOP (PW), Green (RoHS & no Sb/Br); Drivers Per Package: 2; Supply Voltage(s)(V): 2.25 to 3.0; ESD HBM(kV): +/-15; Single Supply: TRUE; DatasheetVersion: SLLS820; PackageVersion: revG, Feb-2011; PackageReference: PW20; PackageDescription: 20-Pin Plastic Thin Small Outline Package 6.5 x 4.4 mm Body ,0.65 mm Pitch; SubFamily: RS-232; Receivers Per Package: 2; ICC(Max)(mA): 2; RS-232: TRUE; ComponentLink1Description: Manufacturer URL; ComponentLink1URL: www.ti.com; ComponentLink2Description: Datasheet; ComponentLink2URL: http://www.ti.com/general/docs/lit/getliterature.tsp?genericPartNumber=TRS3318&fileType=pdf; ComponentLink3Description: Package Specification; ComponentLink3URL: http://www.ti.com/litv/pdf/mpds362
footprint TI-PW20_N (TSOP, 20-Leads, Body 6.5x4.4mm, Pitch 0.65mm, IPC Medium Density)
footprint TI-PW20_L (TSOP, 20-Leads, Body 6.5x4.4mm, Pitch 0.65mm, IPC High Density)
footprint TI-PW20_M (TSOP, 20-Leads, Body 6.5x4.4mm, Pitch 0.65mm, IPC Low Density)
pins: 1 READY (out) "Ready to transmit output, active high. READY is enabled high when V- goes below -3.5 V and the device is ready to transmit.", 2 C1+ "Positive voltage-doubler charge-pump capacitor", 3 V+ (power) "2 x VCC generated by the charge pump", 4 C1- "Negative voltage-doubler charge-pump capacitor", 5 C2+ "Positive inverting charge-pump capacitor", 6 C2- "Negative inverting charge-pump capacitor", 7 V- (power) "-2 x VCC generated by the charge pump", 8 DOUT2 (hiz) "RS-232 driver outputs", 9 RIN2 (in) "RS-232 receiver inputs", 10 ROUT2 (out) "CMOS receiver outputs", 11 ~{INVALID} (out) "Valid signal detector output, active low. A logic high indicates that a valid RS-232 level is present on a receiver input.", 12 DIN2 (in) "CMOS driver inputs", 13 DIN1 (in) "CMOS driver inputs", 14 FORCEON (in) "Force-on input, active high. Drive high to override auto-powerdown, keeping transmitters and receivers on (F\O\R\C\E\O\F\F must be high) (see Function Table)", 15 ROUT1 (out) "CMOS receiver outputs", 16 RIN1 (in) "RS-232 receiver inputs", 17 DOUT1 (hiz) "RS-232 driver outputs", 18 GND (power) "Ground", 19 VCC (power) "2.25-V to 3-V single-supply voltage", 20 ~{FORCEOFF} (in) "Force-off input,active low.Drive low to power down transmitters, receivers, and charge pump. This overrides auto-powerdown and FORCEON (see Function Table)"

## TRS3318IPWRG4
designator U?
2.5-V 460-kbps RS-232 Transceiver with ±15-kV ESD Protection, -40 to 85 degC, 20-Pin TSSOP (PW), Green (RoHS & no Sb/Br); Drivers Per Package: 2; Supply Voltage(s)(V): 2.25 to 3.0; ESD HBM(kV): +/-15; Single Supply: TRUE; DatasheetVersion: SLLS820; PackageVersion: revG, Feb-2011; PackageReference: PW20; PackageDescription: 20-Pin Plastic Thin Small Outline Package 6.5 x 4.4 mm Body ,0.65 mm Pitch; SubFamily: RS-232; Receivers Per Package: 2; ICC(Max)(mA): 2; RS-232: TRUE; ComponentLink1Description: Manufacturer URL; ComponentLink1URL: www.ti.com; ComponentLink2Description: Datasheet; ComponentLink2URL: http://www.ti.com/general/docs/lit/getliterature.tsp?genericPartNumber=TRS3318&fileType=pdf; ComponentLink3Description: Package Specification; ComponentLink3URL: http://www.ti.com/litv/pdf/mpds362
footprint TI-PW20_N (TSOP, 20-Leads, Body 6.5x4.4mm, Pitch 0.65mm, IPC Medium Density)
footprint TI-PW20_L (TSOP, 20-Leads, Body 6.5x4.4mm, Pitch 0.65mm, IPC High Density)
footprint TI-PW20_M (TSOP, 20-Leads, Body 6.5x4.4mm, Pitch 0.65mm, IPC Low Density)
pins: 1 READY (out) "Ready to transmit output, active high. READY is enabled high when V- goes below -3.5 V and the device is ready to transmit.", 2 C1+ "Positive voltage-doubler charge-pump capacitor", 3 V+ (power) "2 x VCC generated by the charge pump", 4 C1- "Negative voltage-doubler charge-pump capacitor", 5 C2+ "Positive inverting charge-pump capacitor", 6 C2- "Negative inverting charge-pump capacitor", 7 V- (power) "-2 x VCC generated by the charge pump", 8 DOUT2 (hiz) "RS-232 driver outputs", 9 RIN2 (in) "RS-232 receiver inputs", 10 ROUT2 (out) "CMOS receiver outputs", 11 ~{INVALID} (out) "Valid signal detector output, active low. A logic high indicates that a valid RS-232 level is present on a receiver input.", 12 DIN2 (in) "CMOS driver inputs", 13 DIN1 (in) "CMOS driver inputs", 14 FORCEON (in) "Force-on input, active high. Drive high to override auto-powerdown, keeping transmitters and receivers on (F\O\R\C\E\O\F\F must be high) (see Function Table)", 15 ROUT1 (out) "CMOS receiver outputs", 16 RIN1 (in) "RS-232 receiver inputs", 17 DOUT1 (hiz) "RS-232 driver outputs", 18 GND (power) "Ground", 19 VCC (power) "2.25-V to 3-V single-supply voltage", 20 ~{FORCEOFF} (in) "Force-off input,active low.Drive low to power down transmitters, receivers, and charge pump. This overrides auto-powerdown and FORCEON (see Function Table)"

## TRS3386ECDW
designator U?
RS-232 Transceiver with Split Supply Pin For Logic Side, 0 to 70 degC, 20-Pin SOIC (DW), Green (RoHS & no Sb/Br); Drivers Per Package: 3; Receivers Per Package: 2; Supply Voltage(s)(V): 3.3 or 5.0 & 2.5; ESD HBM(kV): +/-15; ICC(Max)(mA): 1; RS-232: TRUE; DatasheetVersion: SLLS829C; PackageVersion: revG, Jan-2011; PackageReference: DW20; PackageDescription: 20-Pin Plastic Small Outline Integrated Circuit, 12.8 x 7.5 mm, Pitch 1.27 mm Pitch; SubFamily: RS-232; IEC-61000-4-2 SUPPORT: TRUE; ComponentLink1Description: Manufacturer URL; ComponentLink1URL: www.ti.com; ComponentLink2Description: Datasheet; ComponentLink2URL: http://www.ti.com/general/docs/lit/getliterature.tsp?genericPartNumber=TRS3386E&fileType=pdf; ComponentLink3Description: Package Specification; ComponentLink3URL: http://www.ti.com/litv/pdf/mpds173a
footprint TI-DW20_N (SOIC, 20-Leads, Body 12.8x7.5mm, Pitch 1.27mm, IPC Medium Density)
footprint TI-DW20_L (SOIC, 20-Leads, Body 12.8x7.5mm, Pitch 1.27mm, IPC High Density)
footprint TI-DW20_M (SOIC, 20-Leads, Body 12.8x7.5mm, Pitch 1.27mm, IPC Low Density)
pins: 1 C1+ "Positive terminal of the voltage-doubler charge-pump capacitor", 2 V+ (power) "5.5-V supply generated by the charge pump", 3 C1- "Negative terminal of the voltage-doubler charge-pump capacitor", 4 C2+ "Positive terminal of the inverting charge-pump capacitor", 5 C2- "Negative terminal of the inverting charge-pump capacitor", 6 V- (power) "-5.5-V supply generated by the charge pump", 7 DIN1 (in) "Driver inputs", 8 DIN2 (in) "Driver inputs", 9 DIN3 (in) "Driver inputs", 10 ROUT2 (hiz) "Receiver outputs. Swing between 0 and VL.", 11 ROUT1 (hiz) "Receiver outputs. Swing between 0 and VL.", 12 VL (power) "Logic-level supply. All CMOS inputs and outputs are referenced to this supply", 13 RIN2 (in) "RS-232 receiver inputs", 14 RIN1 (in) "RS-232 receiver inputs", 15 DOUT3 (hiz) "RS-232 driver outputs", 16 DOUT2 (hiz) "RS-232 driver outputs", 17 DOUT1 (hiz) "RS-232 driver outputs", 18 GND (power) "Ground", 19 VCC (power) "3-V to 5.5-V supply voltage", 20 ~{PWRDOWN} (in) "Powerdown input"

## TRS3386ECPW
designator U?
RS-232 Transceiver with Split Supply Pin For Logic Side, 0 to 70 degC, 20-Pin TSSOP (PW), Green (RoHS & no Sb/Br); Drivers Per Package: 3; Receivers Per Package: 2; Supply Voltage(s)(V): 3.3 or 5.0 & 2.5; ESD HBM(kV): +/-15; ICC(Max)(mA): 1; RS-232: TRUE; DatasheetVersion: SLLS829C; PackageVersion: revG, Feb-2011; PackageReference: PW20; PackageDescription: 20-Pin Plastic Thin Small Outline Package 6.5 x 4.4 mm Body ,0.65 mm Pitch; SubFamily: RS-232; IEC-61000-4-2 SUPPORT: TRUE; ComponentLink1Description: Manufacturer URL; ComponentLink1URL: www.ti.com; ComponentLink2Description: Datasheet; ComponentLink2URL: http://www.ti.com/general/docs/lit/getliterature.tsp?genericPartNumber=TRS3386E&fileType=pdf; ComponentLink3Description: Package Specification; ComponentLink3URL: http://www.ti.com/litv/pdf/mpds362
footprint TI-PW20_N (TSOP, 20-Leads, Body 6.5x4.4mm, Pitch 0.65mm, IPC Medium Density)
footprint TI-PW20_L (TSOP, 20-Leads, Body 6.5x4.4mm, Pitch 0.65mm, IPC High Density)
footprint TI-PW20_M (TSOP, 20-Leads, Body 6.5x4.4mm, Pitch 0.65mm, IPC Low Density)
pins: 1 C1+ "Positive terminal of the voltage-doubler charge-pump capacitor", 2 V+ (power) "5.5-V supply generated by the charge pump", 3 C1- "Negative terminal of the voltage-doubler charge-pump capacitor", 4 C2+ "Positive terminal of the inverting charge-pump capacitor", 5 C2- "Negative terminal of the inverting charge-pump capacitor", 6 V- (power) "-5.5-V supply generated by the charge pump", 7 DIN1 (in) "Driver inputs", 8 DIN2 (in) "Driver inputs", 9 DIN3 (in) "Driver inputs", 10 ROUT2 (hiz) "Receiver outputs. Swing between 0 and VL.", 11 ROUT1 (hiz) "Receiver outputs. Swing between 0 and VL.", 12 VL (power) "Logic-level supply. All CMOS inputs and outputs are referenced to this supply", 13 RIN2 (in) "RS-232 receiver inputs", 14 RIN1 (in) "RS-232 receiver inputs", 15 DOUT3 (hiz) "RS-232 driver outputs", 16 DOUT2 (hiz) "RS-232 driver outputs", 17 DOUT1 (hiz) "RS-232 driver outputs", 18 GND (power) "Ground", 19 VCC (power) "3-V to 5.5-V supply voltage", 20 ~{PWRDOWN} (in) "Powerdown input"

## TRS3386EIDW
designator U?
RS-232 Transceiver with Split Supply Pin For Logic Side, -40 to 85 degC, 20-Pin SOIC (DW), Green (RoHS & no Sb/Br); Drivers Per Package: 3; Receivers Per Package: 2; Supply Voltage(s)(V): 3.3 or 5.0 & 2.5; ESD HBM(kV): +/-15; ICC(Max)(mA): 1; RS-232: TRUE; DatasheetVersion: SLLS829C; PackageVersion: revG, Jan-2011; PackageReference: DW20; PackageDescription: 20-Pin Plastic Small Outline Integrated Circuit, 12.8 x 7.5 mm, Pitch 1.27 mm Pitch; SubFamily: RS-232; IEC-61000-4-2 SUPPORT: TRUE; ComponentLink1Description: Manufacturer URL; ComponentLink1URL: www.ti.com; ComponentLink2Description: Datasheet; ComponentLink2URL: http://www.ti.com/general/docs/lit/getliterature.tsp?genericPartNumber=TRS3386E&fileType=pdf; ComponentLink3Description: Package Specification; ComponentLink3URL: http://www.ti.com/litv/pdf/mpds173a
footprint TI-DW20_N (SOIC, 20-Leads, Body 12.8x7.5mm, Pitch 1.27mm, IPC Medium Density)
footprint TI-DW20_L (SOIC, 20-Leads, Body 12.8x7.5mm, Pitch 1.27mm, IPC High Density)
footprint TI-DW20_M (SOIC, 20-Leads, Body 12.8x7.5mm, Pitch 1.27mm, IPC Low Density)
pins: 1 C1+ "Positive terminal of the voltage-doubler charge-pump capacitor", 2 V+ (power) "5.5-V supply generated by the charge pump", 3 C1- "Negative terminal of the voltage-doubler charge-pump capacitor", 4 C2+ "Positive terminal of the inverting charge-pump capacitor", 5 C2- "Negative terminal of the inverting charge-pump capacitor", 6 V- (power) "-5.5-V supply generated by the charge pump", 7 DIN1 (in) "Driver inputs", 8 DIN2 (in) "Driver inputs", 9 DIN3 (in) "Driver inputs", 10 ROUT2 (hiz) "Receiver outputs. Swing between 0 and VL.", 11 ROUT1 (hiz) "Receiver outputs. Swing between 0 and VL.", 12 VL (power) "Logic-level supply. All CMOS inputs and outputs are referenced to this supply", 13 RIN2 (in) "RS-232 receiver inputs", 14 RIN1 (in) "RS-232 receiver inputs", 15 DOUT3 (hiz) "RS-232 driver outputs", 16 DOUT2 (hiz) "RS-232 driver outputs", 17 DOUT1 (hiz) "RS-232 driver outputs", 18 GND (power) "Ground", 19 VCC (power) "3-V to 5.5-V supply voltage", 20 ~{PWRDOWN} (in) "Powerdown input"

## TRS3386EIPW
designator U?
RS-232 Transceiver with Split Supply Pin For Logic Side, -40 to 85 degC, 20-Pin TSSOP (PW), Green (RoHS & no Sb/Br); Drivers Per Package: 3; Receivers Per Package: 2; Supply Voltage(s)(V): 3.3 or 5.0 & 2.5; ESD HBM(kV): +/-15; ICC(Max)(mA): 1; RS-232: TRUE; DatasheetVersion: SLLS829C; PackageVersion: revG, Feb-2011; PackageReference: PW20; PackageDescription: 20-Pin Plastic Thin Small Outline Package 6.5 x 4.4 mm Body ,0.65 mm Pitch; SubFamily: RS-232; IEC-61000-4-2 SUPPORT: TRUE; ComponentLink1Description: Manufacturer URL; ComponentLink1URL: www.ti.com; ComponentLink2Description: Datasheet; ComponentLink2URL: http://www.ti.com/general/docs/lit/getliterature.tsp?genericPartNumber=TRS3386E&fileType=pdf; ComponentLink3Description: Package Specification; ComponentLink3URL: http://www.ti.com/litv/pdf/mpds362
footprint TI-PW20_N (TSOP, 20-Leads, Body 6.5x4.4mm, Pitch 0.65mm, IPC Medium Density)
footprint TI-PW20_L (TSOP, 20-Leads, Body 6.5x4.4mm, Pitch 0.65mm, IPC High Density)
footprint TI-PW20_M (TSOP, 20-Leads, Body 6.5x4.4mm, Pitch 0.65mm, IPC Low Density)
pins: 1 C1+ "Positive terminal of the voltage-doubler charge-pump capacitor", 2 V+ (power) "5.5-V supply generated by the charge pump", 3 C1- "Negative terminal of the voltage-doubler charge-pump capacitor", 4 C2+ "Positive terminal of the inverting charge-pump capacitor", 5 C2- "Negative terminal of the inverting charge-pump capacitor", 6 V- (power) "-5.5-V supply generated by the charge pump", 7 DIN1 (in) "Driver inputs", 8 DIN2 (in) "Driver inputs", 9 DIN3 (in) "Driver inputs", 10 ROUT2 (hiz) "Receiver outputs. Swing between 0 and VL.", 11 ROUT1 (hiz) "Receiver outputs. Swing between 0 and VL.", 12 VL (power) "Logic-level supply. All CMOS inputs and outputs are referenced to this supply", 13 RIN2 (in) "RS-232 receiver inputs", 14 RIN1 (in) "RS-232 receiver inputs", 15 DOUT3 (hiz) "RS-232 driver outputs", 16 DOUT2 (hiz) "RS-232 driver outputs", 17 DOUT1 (hiz) "RS-232 driver outputs", 18 GND (power) "Ground", 19 VCC (power) "3-V to 5.5-V supply voltage", 20 ~{PWRDOWN} (in) "Powerdown input"

## TRSF3221CDBR
designator U?
3-V to 5.5-V Single-Channel RS-232 Compatible Line Driver / Receiver, 0 to 70 degC, 16-Pin SSOP (DB),  Green (RoHS & no Sb/Br); Drivers Per Package: 1; Supply Voltage(s)(V): 3.3 or 5.0; ESD HBM(kV): +/-15; Single Supply: TRUE; DatasheetVersion: SLLS857; PackageVersion: revE, Dec-2001; PackageReference: DB16; PackageDescription: 16-Pin Plastic Small Outline Package, 6.2 x 5.3 mm Body, 0.65 mm Pitch; SubFamily: RS-232; Receivers Per Package: 1; ICC(Max)(mA): 1; RS-232: TRUE; ComponentLink1Description: Manufacturer URL; ComponentLink1URL: www.ti.com; ComponentLink2Description: Datasheet; ComponentLink2URL: http://www.ti.com/general/docs/lit/getliterature.tsp?genericPartNumber=TRSF3221&fileType=pdf; ComponentLink3Description: Package Specification; ComponentLink3URL: http://www.ti.com/litv/pdf/msso002e
footprint TI-DB16_N (SOP, 16-Leads, Body 6.2x5.3mm, Pitch 0.65mm, IPC Medium Density)
footprint TI-DB16_L (SOP, 16-Leads, Body 6.2x5.3mm, Pitch 0.65mm, IPC High Density)
footprint TI-DB16_M (SOP, 16-Leads, Body 6.2x5.3mm, Pitch 0.65mm, IPC Low Density)
pins: 1 ~{EN} (in), 2 C1+, 3 V+ (power), 4 C1-, 5 C2+, 6 C2-, 7 V- (power), 8 RIN (in), 9 ROUT (hiz), 10 ~{INVALID} (out), 11 DIN (in), 12 FORCEON (in), 13 DOUT (hiz), 14 GND (power), 15 VCC (power), 16 ~{FORCEOFF} (in)